# EAGLE library part SST25VF040B-50-4C-SAF (library SST25VF040B-50-4C-SAF)
4 Mbit SPI Serial Flash Check prices <https://pricing.snapeda.com/parts/SST25VF040B-50-4C-SAF/Microchip/view-part?ref=eda>
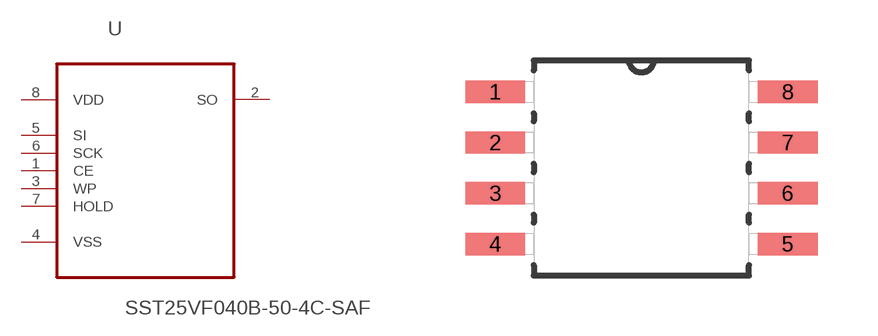
[diagram p0: symbol with the pads of SOIC127P790X216-8N; footprint SOIC127P790X216-8N]

Designator prefix U

## SST25VF040B-50-4C-SAF (Availability: In Stock; Description: FLASH Memory IC 4Mb (512K x 8) SPI 50MHz 8-SOIC; MF: Microchip; MP: SST25VF040B-50-4C-SAF; Package: SOIC-8 Microchip; Price: None)  [SOIC127P790X216-8N]
1  CE  in
2  SO  out
3  WP  in
4  VSS  pas
5  SI  in
6  SCK  in
7  HOLD  in
8  VDD  pwr

## Footprint SOIC127P790X216-8N (pad centres in mm)
smd 1.499 x 0.559: 1 -3.658,1.905; 2 -3.658,0.635; 3 -3.658,-0.635; 4 -3.658,-1.905; 5 3.658,-1.905; 6 3.658,-0.635; 7 3.658,0.635; 8 3.658,1.905